# Altium schematic symbol library NFET.SCHLIB: 1 symbol
Pins are listed as number, name and electrical type; pins without a type are passive.

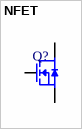
[diagram p0: symbol NFET]

## NFET
designator Q?
pins: 1 G, 2 S, 3 D